# Altium schematic symbol library SDLib.SchLib: 17 symbols
Pins are listed as number, name and electrical type; pins without a type are passive.

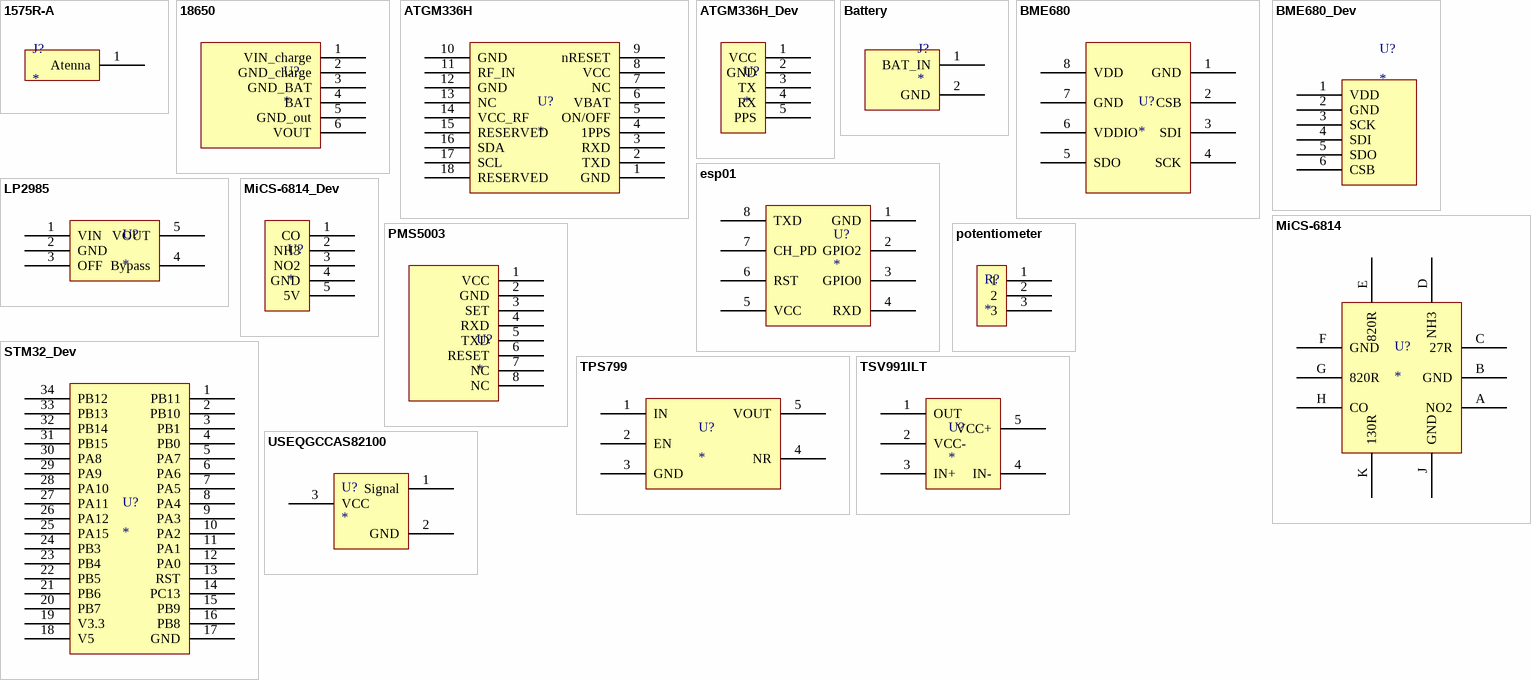
[diagram p0: symbols 1575R-A to USEQGCCAS82100]

## 1575R-A
designator J?
pins: 1 Atenna

## 18650
designator U?
pins: 1 VIN_charge, 2 GND_charge, 3 GND_BAT, 4 BAT, 5 GND_out, 6 VOUT

## ATGM336H
designator U?
pins: 1 GND, 2 TXD, 3 RXD, 4 1PPS, 5 ON/OFF, 6 VBAT, 7 NC, 8 VCC, 9 nRESET, 10 GND, 11 RF_IN, 12 GND, 13 NC, 14 VCC_RF, 15 RESERVED, 16 SDA, 17 SCL, 18 RESERVED

## ATGM336H_Dev
designator U?
pins: 1 VCC, 2 GND, 3 TX, 4 RX, 5 PPS

## Battery
designator J?
footprint Battery
pins: 1 BAT_IN, 2 GND

## BME680
designator U?
pins: 1 GND, 2 CSB, 3 SDI, 4 SCK, 5 SDO, 6 VDDIO, 7 GND, 8 VDD

## BME680_Dev
designator U?
pins: 1 VDD, 2 GND, 3 SCK, 4 SDI, 5 SDO, 6 CSB

## esp01
designator U?
pins: 1 GND, 2 GPIO2, 3 GPIO0, 4 RXD, 5 VCC, 6 RST, 7 CH_PD, 8 TXD

## LP2985
designator U?
pins: 1 VIN, 2 GND, 3 OFF, 4 Bypass, 5 VOUT

## MiCS-6814
designator U?
pins: A NO2, B GND, C  27R, D NH3, E 820R, F GND, G 820R, H CO, J GND, K 130R

## MiCS-6814_Dev
designator U?
pins: 1 CO, 2 NH3, 3 NO2, 4 GND, 5 5V

## PMS5003
designator U?
pins: 1 VCC, 2 GND, 3 SET, 4 RXD, 5 TXD, 6 RESET, 7 NC, 8 NC

## potentiometer
designator R?
footprint potentiometer
pins: 1, 2, 3

## STM32_Dev
designator U?
pins: 1 PB11, 2 PB10, 3 PB1, 4 PB0, 5 PA7, 6 PA6, 7 PA5, 8 PA4, 9 PA3, 10 PA2, 11 PA1, 12 PA0, 13 RST, 14 PC13, 15 PB9, 16 PB8, 17 GND, 18 V5, 19 V3.3, 20 PB7, 21 PB6, 22 PB5, 23 PB4, 24 PB3, 25 PA15, 26 PA12, 27 PA11, 28 PA10, 29 PA9, 30 PA8, 31 PB15, 32 PB14, 33 PB13, 34 PB12

## TPS799
designator U?
pins: 1 IN, 2 EN, 3 GND, 4 NR, 5 VOUT

## TSV991ILT
designator U?
pins: 1 OUT, 2 VCC-, 3 IN+, 4 IN-, 5 VCC+

## USEQGCCAS82100
designator U?
pins: 1 Signal, 2 GND, 3 VCC